# Altium footprint library Components - 24.09.26 - 10.48.PcbLib: 1 footprints
Each footprint in its own frame and in the unit in brackets; x right, y up, seen from the top. Pads: shape width x height; smd on the part's side, far side on the other; paste and mask are expansions set on the pad; w line width, h text height; cw(c..) or ccw(c..) is an arc to the next point about the centre after c.
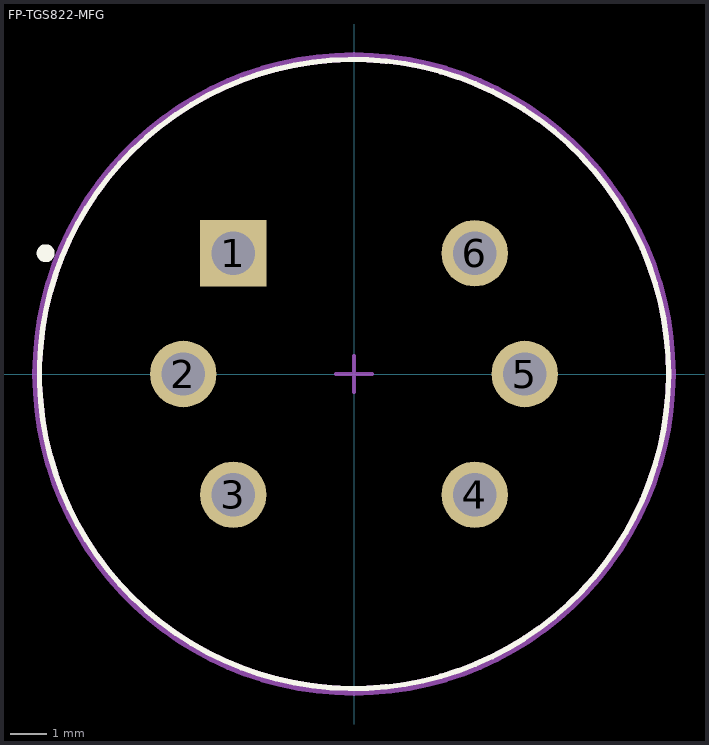
[diagram p0: the footprint, top view; thin cyan lines are the x and y axes]

## FP-TGS822-MFG [mm]
pads (6):
  rect 1.85x1.85 hole 1.2 paste-2539.97 mask+0: 1(-3.359,3.359)
  round 1.85 hole 1.2 paste-2539.97 mask+0: 2(-4.75,0) 3(-3.359,-3.359) 4(3.359,-3.359) 5(4.75,0) 6(3.359,3.359)
Top Overlay:
  circle w0.15: c0,0 r8.75
  circle w0.25: c-8.575,3.359 r0.125
Top Assembly:
  text ".Designator" at 0,0.188 h1
Top 3D Body:
  circle w0.15: c0,0 r8.75
Top Courtyard:
  lines w0.2: -8.85,0 ccw(c0,0) 8.85,0 ccw(c0,0) -8.85,0
Top Component Center:
  lines w0.1: -0.5,0 0.5,0 ; 0,-0.5 0,0.5
3D body "IC_FIGARO_TGS822_eec.STEP": height 0.25, standoff 0, extent -8.85,-8.85 8.85,8.85